# Altium schematic symbol library TSW-101-15-T-S.SchLib: 2 symbols
Pins are listed as number, name and electrical type; pins without a type are passive.

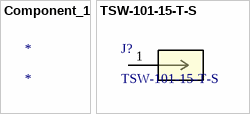
[diagram p0: symbols Component_1 to TSW-101-15-T-S]

## Component_1
designator *

## TSW-101-15-T-S
designator J?
No Description Available; Mfr_Name: Samtec Inc; Copyright: Copyright (C) 2022 Ultra Librarian. All rights reserved.; Manufacturer_Part_Number: TSW-101-15-T-S; Digi-Key_Part_Number_1: SAM12298-ND; RefDes: RefDes; Type: DEV
footprint CON1_1X1_TU_TSW
pins: 1